# EAGLE library part FT231X (library lpclib)
FT231X Datasheet <http://www.ftdichip.com/Support/Documents/DataSheets/ICs/DS_FT231X.pdf>
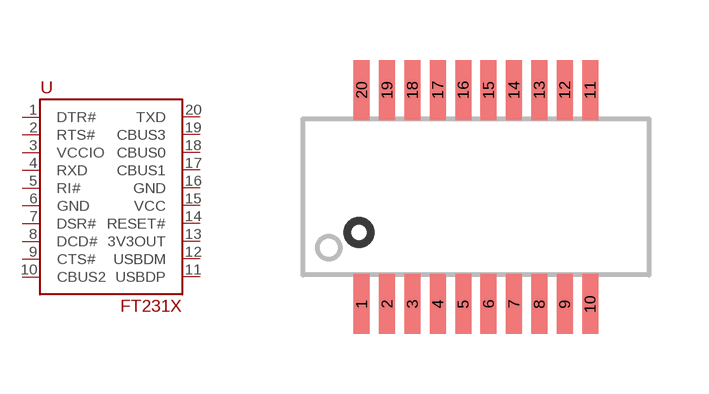
[diagram p1: symbol with the pads of SSOP-20; footprint SSOP-20]

Designator prefix -

## FT231X  [SSOP-20]
1  DTR#  out
2  RTS#  out
3  VCCIO  pwr
4  RXD  in
5  RI#
6  GND  pwr
7  DSR#
8  DCD#
9  CTS#
10  CBUS2
11  USBDP  in
12  USBDM  in
13  3V3OUT  pwr
14  RESET#  in
15  VCC  pwr
16  GND  pwr
17  CBUS1
18  CBUS0
19  CBUS3
20  TXD

## Footprint SSOP-20 (pad centres in mm)
SSOP-20 Package for FTDI circuit FT231X Not tested
smd 0.4 x 1.5: 1 -2.857,-2.68; 2 -2.223,-2.68; 3 -1.587,-2.68; 4 -0.953,-2.68; 5 -0.318,-2.68; 6 0.318,-2.68; 7 0.953,-2.68; 8 1.587,-2.68; 9 2.223,-2.68; 10 2.857,-2.68; 11 2.857,2.68; 12 2.223,2.68; 13 1.587,2.68; 14 0.953,2.68; 15 0.318,2.68; 16 -0.318,2.68; 17 -0.953,2.68; 18 -1.587,2.68; 19 -2.223,2.68; 20 -2.857,2.68